# Altium footprint library LPON_OTHER.PcbLib: 107 footprints (part 2 of 7)
Each footprint in its own frame and in the unit in brackets; x right, y up, seen from the top. Pads: shape width x height; smd on the part's side, far side on the other; paste and mask are expansions set on the pad; w line width, h text height; cw(c..) or ccw(c..) is an arc to the next point about the centre after c.
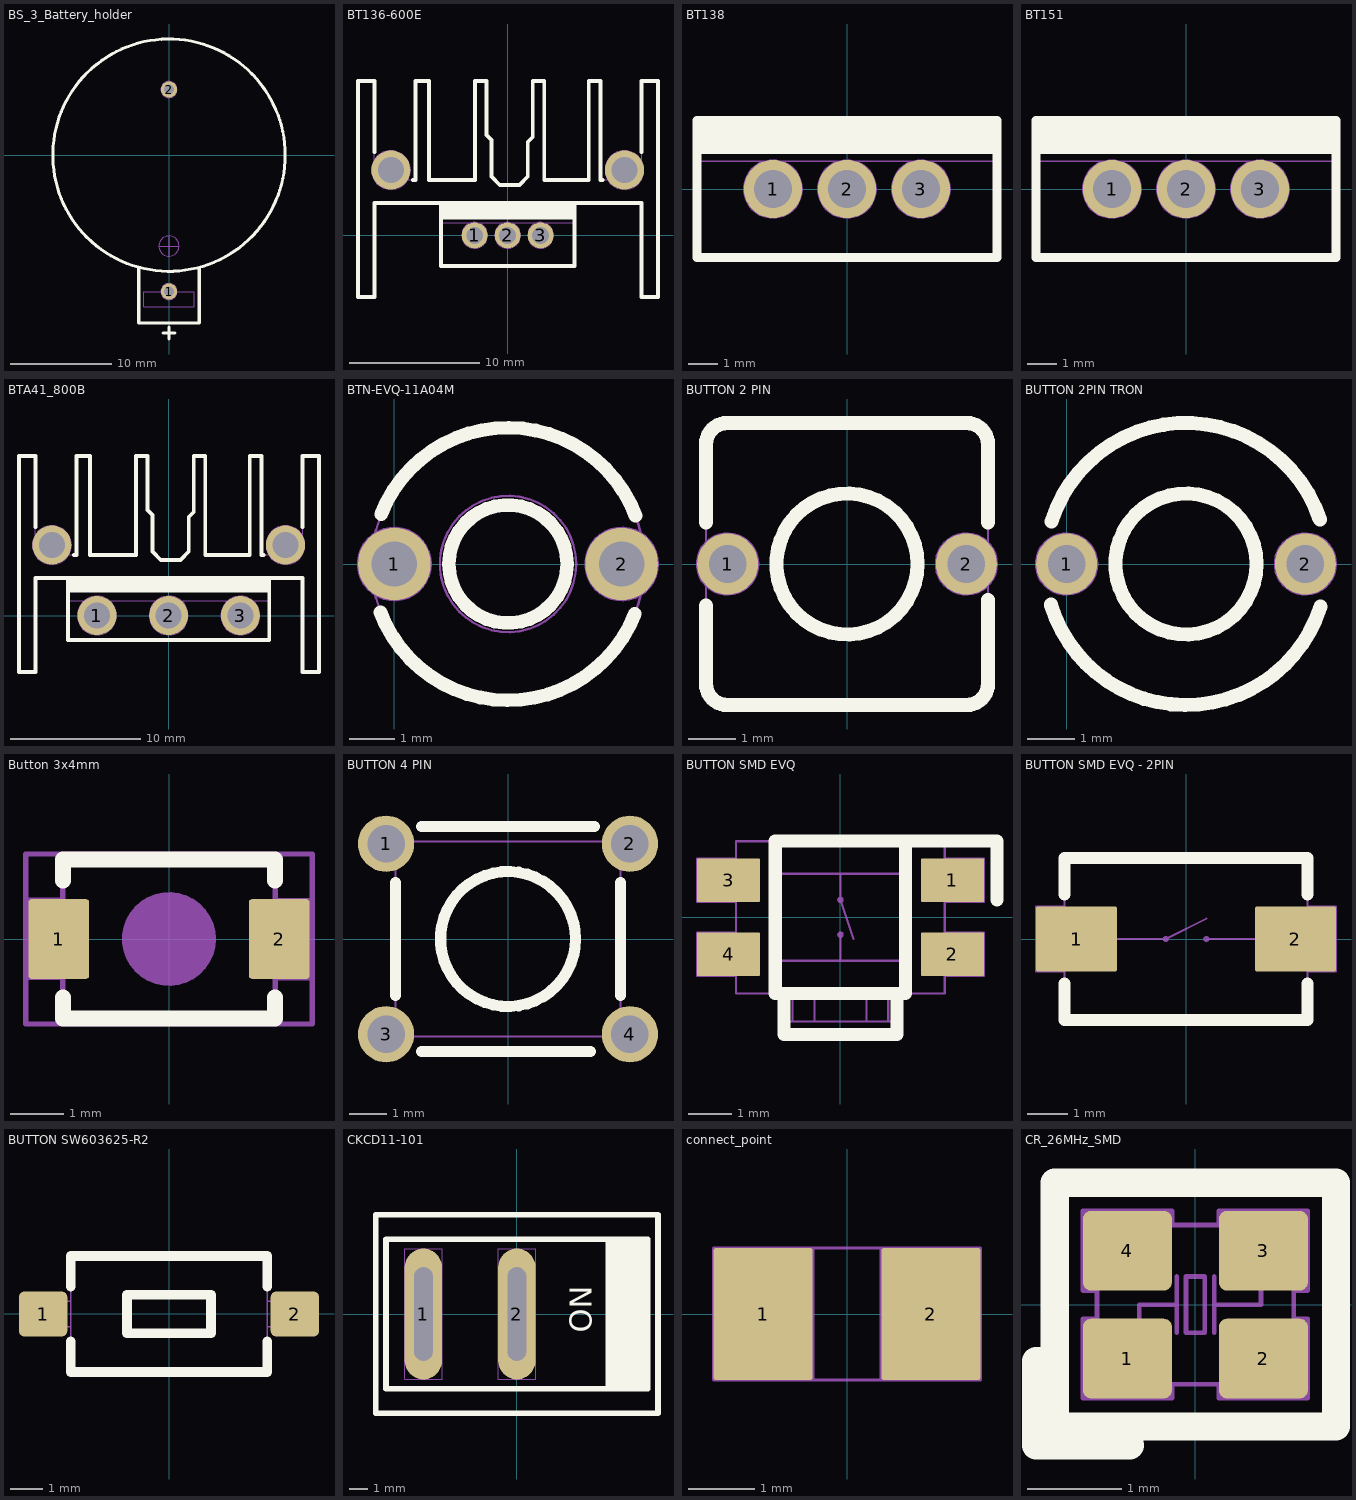
[diagram p1: the footprints below, top view; thin cyan lines are the x and y axes]

## BS_3_Battery_holder [mm]
height 6.75
pads (2):
  round 1.6 hole 1 mask+0.1: 1(0,-13.5) 2(0,6.5)
Top Overlay:
  circle w0.3: c0,0 r11.5
  lines w0.3: -2.995,-11.1 -2.995,-16.6 2.995,-16.6 2.995,-11.1 ; -0.6,-17.6 0.6,-17.6 ; 0,-18.2 0,-17
Mechanical 1:
  circle w0.05: c0,-9 r1
  circle w0.05: c0,0 r11.5
  circle w0.05: c0,-13.5 r0.8
  circle w0.05: c0,6.5 r0.8
  lines w0.05: -2.995,-11.1 -2.995,-16.6 2.995,-16.6 2.995,-11.1 ; -1,-9 1,-9 ; -0.8,-13.5 -2.5,-13.5 -2.5,-15 2.5,-15 2.5,-13.5 0.8,-13.5 ; 0,-10 0,-8
3D body "batter2.STEP": height 7.07, standoff -3.48, extent -11.4,-17.253 11.35,11.447

## BT136-600E [mm] "Triac"
pads (5):
  round 2 hole 1.3 mask+0.1: 1(-2.54,0) 2(0,0) 3(2.54,0)
  round 3 hole 2 mask+0.1: ""(-9,5.029)
  round 3 hole 2: ""(9,5.029)
Top Overlay:
  lines w0.3: -10.262,6.4 -10.262,11.887 -11.532,11.887 -11.532,-4.75 -10.262,-4.75 -10.262,2.489 10.312,2.489 10.312,-4.75 11.582,-4.75 11.582,11.887 10.312,11.887 10.312,6.4 ; -7.3,4.267 -7.087,4.267 -7.087,11.887 -6.071,11.887 -6.071,4.267 -2.515,4.267 -2.515,11.887 -1.626,11.887 -1.626,7.722 -1.245,7.341 -1.245,4.521 -0.61,3.886 0.914,3.886 1.549,4.521 1.549,7.188 1.93,7.569 1.93,11.887 2.819,11.887 2.819,4.267 6.248,4.267 6.248,11.887 7.137,11.887 7.137,4.267 7.3,4.267 ; -5.15,1.65 5.15,1.65 ; -5.15,1.95 5.15,1.95 ; -5.15,2.25 5.15,2.25 ; -5.15,-2.35 5.15,-2.35 5.15,2.35 -5.15,2.35 -5.15,-2.35 ; -5.15,1.35 5.15,1.35 -5.15,1.35
Mechanical 1:
  circle w0.05: c-2.54,0 r1
  circle w0.05: c0,0 r1
  circle w0.05: c2.54,0 r1
  circle w0.05: c-9,5.029 r1.5
  circle w0.05: c9,5.029 r1.5
  lines w0.05: -5.15,0.95 5.15,0.95 ; -5.15,2.35 5.15,2.35 ; -5.15,2.35 -5.15,-2.35 5.15,-2.35 5.15,2.35 ; -5.15,2.35 5.15,2.35 ; -11.532,-4.75 -10.262,-4.75 -10.262,2.489 -7.404,2.489 -6.604,2.489 5.588,2.489 7.772,2.489 10.312,2.489 10.312,-4.75 11.582,-4.75 11.582,11.887 10.312,11.887 10.312,4.267 7.137,4.267 7.137,11.887 6.248,11.887 6.248,4.267 2.819,4.267 2.819,11.887 1.93,11.887 1.93,7.569 1.549,7.188 1.549,4.521 0.914,3.886 -0.61,3.886 -1.245,4.521 -1.245,7.341 -1.626,7.722 -1.626,11.887 -2.515,11.887 -2.515,4.267 -6.071,4.267 -6.071,11.887 -7.087,11.887 -7.087,4.267 -10.262,4.267 -10.262,11.887 -11.532,11.887 -11.532,-4.75
  text "T1" at -3.26,-0.51 h1
  text "T2" at -0.84,-0.52 h1
  text "G" at 2.2,-0.52 h1
3D body "User Library-heat sink-1.STEP": height 30.62, standoff 0, extent -11.445,-4.695 11.455,11.705
3D body "User Library-TO-220-1.STEP": height 20.58, standoff -8.2, extent -4.947,-2.087 4.953,2.413

## BT138 [mm] "Triac TO220AB"
height 15.8
pads (3):
  round 2 hole 1.3 mask+0.1: 1(-2.54,0) 2(0,0) 3(2.54,0)
Top Overlay:
  lines w0.3: -5.15,1.65 5.15,1.65 ; -5.15,1.95 5.15,1.95 ; -5.15,2.25 5.15,2.25 ; -5.15,-2.35 5.15,-2.35 5.15,2.35 -5.15,2.35 -5.15,-2.35 ; -5.15,1.35 5.15,1.35 -5.15,1.35
Mechanical 1:
  circle w0.05: c-2.54,0 r1
  circle w0.05: c0,0 r1
  circle w0.05: c2.54,0 r1
  lines w0.05: -5.15,0.95 5.15,0.95 ; -5.15,2.35 5.15,2.35 ; -5.15,2.35 -5.15,-2.35 5.15,-2.35 5.15,2.35 ; -5.15,2.35 5.15,2.35
  text "T1" at -3.26,-0.51 h1
  text "T2" at -0.84,-0.52 h1
  text "G" at 2.2,-0.52 h1
3D body "User Library-TO-220-1.STEP": height 18.8, standoff -9.98, extent -4.947,-2.087 4.953,2.413

## BT151 [mm] "SCR TO220AB"
height 15.8
pads (3):
  round 2 hole 1.3 mask+0.1: 1(-2.54,0) 2(0,0) 3(2.54,0)
Top Overlay:
  lines w0.3: -5.15,1.65 5.15,1.65 ; -5.15,1.95 5.15,1.95 ; -5.15,2.25 5.15,2.25 ; -5.15,-2.35 -5.15,2.35 5.15,2.35 5.15,-2.35 -5.15,-2.35 ; -5.15,1.35 5.15,1.35 -5.15,1.35
Mechanical 1:
  circle w0.05: c2.54,0 r1
  circle w0.05: c0,0 r1
  circle w0.05: c-2.54,0 r1
  lines w0.05: -5.15,0.95 5.15,0.95 ; -5.15,2.35 5.15,2.35 ; -5.15,2.35 -5.15,-2.35 5.15,-2.35 5.15,2.35 ; -5.15,2.35 5.15,2.35
  text "G" at 2.2,-0.52 h1
  text "A" at -0.4,-0.4 h1
  text "K" at -2.9,-0.52 h1
3D body "User Library-TO-220-1.STEP": height 18.8, standoff -9.98, extent -4.947,-2.087 4.953,2.413

## BTA41_800B [mm] "Triac 41A"
height 21.1
pads (5):
  round 3 hole 2: 1(-5.525,0) 2(0,0) 3(5.525,0) ""(9,5.429)
  round 3 hole 2 mask+0.1: ""(-9,5.429)
Top Overlay:
  lines w0.3: -10.262,6.8 -10.262,12.287 -11.532,12.287 -11.532,-4.35 -10.262,-4.35 -10.262,2.889 10.312,2.889 10.312,-4.35 11.582,-4.35 11.582,12.287 10.312,12.287 10.312,6.8 ; -7.75,2.21 7.75,2.21 ; -7.75,2.51 7.75,2.51 ; -7.75,2.81 7.75,2.81 ; -7.3,4.667 -7.087,4.667 -7.087,12.287 -6.071,12.287 -6.071,4.667 -2.515,4.667 -2.515,12.287 -1.626,12.287 -1.626,8.122 -1.245,7.741 -1.245,4.921 -0.61,4.286 0.914,4.286 1.549,4.921 1.549,7.588 1.93,7.969 1.93,12.287 2.819,12.287 2.819,4.667 6.248,4.667 6.248,12.287 7.137,12.287 7.137,4.667 7.3,4.667 ; -7.75,2.7 7.75,2.7 ; -7.75,2.7 -7.75,-1.9 7.75,-1.9 7.75,2.7 ; -7.75,2.7 7.75,2.7 ; -7.75,1.91 7.75,1.91 -7.75,1.91
Mechanical 1:
  circle w0.05: c-5.525,0 r1.5
  circle w0.05: c0,0 r1.5
  circle w0.05: c5.525,0 r1.5
  circle w0.05: c-9,5.429 r1.5
  circle w0.05: c9,5.429 r1.5
  lines w0.05: -10.262,6.24 -10.262,12.287 -11.532,12.287 -11.532,-4.35 -10.262,-4.35 -10.262,2.889 10.312,2.889 10.312,-4.35 11.582,-4.35 11.582,12.287 10.312,12.287 10.312,6.17 ; -7.75,1.15 7.75,1.15 ; -7.7,4.667 -7.087,4.667 -7.087,12.287 -6.071,12.287 -6.071,4.667 -2.515,4.667 -2.515,12.287 -1.626,12.287 -1.626,8.122 -1.245,7.741 -1.245,4.921 -0.61,4.286 0.914,4.286 1.549,4.921 1.549,7.588 1.93,7.969 1.93,12.287 2.819,12.287 2.819,4.667 6.248,4.667 6.248,12.287 7.137,12.287 7.137,4.667 7.7,4.667 ; -7.75,2.7 7.75,2.7 ; -7.75,2.7 -7.75,-1.9 7.75,-1.9 7.75,2.7 ; -7.75,2.7 7.75,2.7
  text "A1" at -6.02,-0.49 h1
  text "A2" at -0.79,-0.54 h1
  text "G" at 5.24,-0.58 h1
3D body "User Library-heat sink-1.STEP": height 30.62, standoff 0, extent -11.445,-4.295 11.455,12.105
3D body "User Library-TOP3.step": height 22.9, standoff -13, extent -7.739,-2.068 7.761,2.432

## BTN-EVQ-11A04M [mm] "PIN TO PIN 5, W=6MM"
height 4.3
pads (2):
  round 1.6 hole 1: 1(0,0) 2(5,0)
Top Overlay:
  circle w0.3: c2.5,0 r1.3
  lines w0.3: -0.305,-1.064 ccw(c2.5,0) 5.292,-1.097 ; -0.292,1.097 cw(c2.5,0) 5.305,1.064
Mechanical 1:
  circle w0.05: c2.5,0 r3
  circle w0.05: c2.5,0 r1.5
  circle w0.05: c5,0 r0.8
  circle w0.05: c0,0 r0.8
  circle w0.05: c2.5,0 r1.5

## BUTTON 2 PIN [mm]
height 4
pads (2):
  round 1.3 hole 0.8: 1(-2.54,0) 2(2.54,0)
Top Overlay:
  circle w0.3: c0,0 r1.5
  lines w0.3: -3,-0.889 -3,-2.54 ccw(c-2.54,-2.54) -2.54,-3 2.54,-3 ccw(c2.54,-2.54) 3,-2.54 3,-0.762 ; -3,0.889 -3,2.54 cw(c-2.54,2.54) -2.54,3 2.54,3 cw(c2.54,2.54) 3,2.54 3,0.889
Mechanical 1:
  circle w0.05: c0,0 r1.5
  circle w0.05: c-2.54,0 r0.65
  circle w0.05: c2.54,0 r0.65
  lines w0.05: -3,-2.54 ccw(c-2.54,-2.54) -2.54,-3 2.54,-3 ccw(c2.54,-2.54) 3,-2.54 3,2.54 ccw(c2.54,2.54) 2.54,3 -2.54,3 ccw(c-2.54,2.54) -3,2.54 -3,-2.54
3D body "User Library-TPxxxx (Switch).step": height 4.9, standoff -3.59, extent -4,-3 3.975,3

## BUTTON 2PIN TRON [mm] "PIN TO PIN 5.08, W=6MM"
height 5
pads (2):
  round 1.3 hole 0.8: 1(0,0) 2(5.08,0)
Top Overlay:
  circle w0.3: c2.54,0 r1.5
  lines w0.3: -0.333,-0.862 ccw(c2.54,0) 5.399,-0.91 ; -0.321,0.903 cw(c2.54,0) 5.386,0.949
Mechanical 1:
  circle w0.05: c2.54,0 r1.5
  circle w0.05: c0,0 r0.65
  circle w0.05: c5.08,0 r0.65
  circle w0.05: c2.54,0 r1.5
  lines w0.05: -0.333,-0.862 ccw(c2.54,0) 5.399,-0.91 ; -0.321,0.903 cw(c2.54,0) 5.386,0.949
3D body "43461.stp": height 4.4, standoff -8.9, extent -0.735,-3.025 5.715,3.175

## Button 3x4mm [mm] "SMD 3x4mm"
pads (2):
  rrect10% 1.143x1.5 smd: 1(-2.075,0) 2(2.075,0)
Top Overlay:
  lines w0.3: -2,-1.1 -2,-1.5 2,-1.5 2,-1.1 ; -2,1.1 -2,1.5 2,1.5 2,1.1
Mechanical 2:
  circle w0.05: c0,0 r0.861
  region: -0.085,-0.861 -0.251,-0.828 -0.408,-0.763 -0.549,-0.669 -0.669,-0.549 -0.763,-0.408 -0.828,-0.251 -0.861,-0.085 -0.861,0 -0.861,0.085 -0.828,0.251 -0.763,0.408 -0.669,0.549 -0.549,0.669 -0.408,0.763 -0.251,0.828 -0.085,0.861 0,0.861 0.085,0.861 0.251,0.828 0.408,0.763 0.549,0.669 0.669,0.549 0.763,0.408 0.828,0.251 0.861,0.085 0.861,-0.085 0.828,-0.251 0.763,-0.408 0.669,-0.549 0.549,-0.669 0.408,-0.763 0.251,-0.828 0.085,-0.861
  lines w0.05: -2.007,0.752 -2.64,0.752 -2.64,-0.744 -2,-0.744 ; 2,0.744 2.64,0.744 2.64,-0.752 2.007,-0.752 ; -2,-1.5 -2,1.5 2,1.5 2,-1.5 -2,-1.5
Mechanical 13:
  lines w0.1: -2,-1.5 2,-1.5 2,1.5 -2,1.5 -2,-1.5
Mechanical 15:
  lines w0.1: -0.5,0 0.5,0 ; 0,-0.5 0,0.5 ; -2.7,-1.6 2.7,-1.6 2.7,1.6 -2.7,1.6 -2.7,-1.6
3D body "SMT Tactile Switch PTS-820.STEP": height 2.05, standoff -0.5, extent -2.25,-1.55 2.25,1.55

## BUTTON 4 PIN [mm] "4PIN 6X6MM"
height 5
pads (4):
  round 1.5 hole 1: 1(-3.25,2.54) 2(3.25,2.54) 3(-3.25,-2.54) 4(3.25,-2.54)
Top Overlay:
  circle w0.3: c0,0 r1.8
  lines w0.3: -3,-1.5 -3,1.5 ; -2.3,-3 2.2,-3 ; -2.3,3 2.3,3 ; 3,-1.5 3,1.5
Mechanical 2:
  circle w0.05: c-3.25,-2.54 r0.65
  circle w0.05: c-3.25,2.54 r0.65
  circle w0.05: c3.25,-2.54 r0.65
  circle w0.05: c3.25,2.54 r0.65
  circle w0.05: c0,0 r1.8
  lines w0.05: -3,-2.6 -3,2.6 3,2.6 3,-2.6 -3,-2.6
3D body "User Library-TPxxxx (Switch).step": height 4.9, standoff -3.59, extent -4,-3 3.975,3

## BUTTON SMD EVQ [mm] "EVQ-PUB02K"
height 1.68
pads (4):
  rrect5% 1.45x1 smd mask+0.1: 1(2.575,0.85) 2(2.575,-0.85) 3(-2.575,0.85) 4(-2.575,-0.85)
Top Overlay:
  lines w0.3: -1.3,-1.75 -1.3,-2.7 1.3,-2.7 1.3,-1.8 ; 3.6,0.4 3.6,1.75 1.5,1.75 ; 1.5,1.75 -1.5,1.75 -1.5,-1.75 1.5,-1.75 1.5,1.75
Mechanical 1:
  circle w0.05: c0,0.4 r0.05
  circle w0.05: c0,-0.4 r0.05
  circle w0.05: c-1.5,1 r0.05
  circle w0.05: c-1.5,-1 r0.05
  circle w0.05: c1.5,-1 r0.05
  circle w0.05: c1.5,1 r0.05
  lines w0.05: -1.5,-1 1.5,-1 ; -1.5,1 1.5,1 ; -1.1,-2.4 -1.1,-1.75 ; -0.6,-2.4 -0.6,-1.75 ; 0,-1 0,-0.4 ; 0,1 0,0.4 0.3,-0.5 ; 0.6,-2.4 0.6,-1.75 ; 1.1,-2.4 1.1,-1.75 ; -3.3,-1.35 -3.3,-0.35 -2.4,-0.35 -2.4,-1.35 -3.3,-1.35 ; -3.3,0.35 -3.3,1.35 -2.4,1.35 -2.4,0.35 -3.3,0.35 ; -2.4,-1.75 -2.4,1.75 2.4,1.75 2.4,-1.75 -2.4,-1.75 ; -1.3,-2.75 1.3,-2.75 1.3,-2.4 -1.3,-2.4 -1.3,-2.75 ; 2.4,-1.35 2.4,-0.35 3.3,-0.35 3.3,-1.35 2.4,-1.35 ; 2.4,0.35 3.3,0.35 3.3,1.35 2.4,1.35 2.4,0.35
  text "1" at 2.8,0.4 h0.8
  text "2" at 2.6,-1.3 h0.8
  text "3" at -3.1,0.4 h0.8
  text "4" at -3.1,-1.3 h0.8
  text "SW?" at 0,0 h0.8
3D body "User Library-EVQP7-JA-01P.step": height 1.4, standoff 0.05, extent -2.35,-2.1 2.35,1.45

## BUTTON SMD EVQ - 2PIN [mm] "EVQ-PNF04M"
height 4.3
pads (2):
  rrect5% 2x1.6 smd mask+0.1: 1(-2.7,0) 2(2.7,0)
Top Overlay:
  lines w0.3: -3,-1.1 -3,-2 3,-2 3,-1.1 ; -3,1.1 -3,2 3,2 3,1.1
Mechanical 1:
  circle w0.05: c-2,0 r0.05
  circle w0.05: c-0.5,0 r0.05
  circle w0.05: c0.5,0 r0.05
  circle w0.05: c2,0 r0.05
  lines w0.05: -2,0 -0.5,0 0.5,0.5 ; 0.5,0 2,0 ; -3.7,-0.8 -3,-0.8 -3,0.8 -3.7,0.8 -3.7,-0.8 ; -3,-2 3,-2 3,2 -3,2 -3,-2 ; 3,-0.8 3.7,-0.8 3.7,0.8 3,0.8 3,-0.8
  text "SW?" at 0,0 h0.8
3D body "User Library-EVQ-PE105K.step": height 5, standoff 0, extent -3.6,-1.75 3.6,1.75

## BUTTON SW603625-R2 [mm] "SMD Tact Switch 6x3.6x2.5"
height 2.5
pads (2):
  rrect25% 1.5x1.4 smd: 1(-3.9,0) 2(3.9,0)
Top Overlay:
  lines w0.3: -3.05,-0.85 -3.05,-1.8 3.05,-1.8 3.05,-0.85 ; -3.05,0.85 -3.05,1.8 3.05,1.8 3.05,0.85 ; -1.3,-0.6 1.3,-0.6 1.3,0.6 -1.3,0.6 -1.3,-0.6
Mechanical 2:
  lines w0.05: -3.05,-0.4 -4,-0.4 -4,0.4 -3.05,0.4 ; 3.05,-0.4 4,-0.4 4,0.4 3.05,0.4 ; -3.05,-1.8 -3.05,1.8 3.05,1.8 3.05,-1.8 -3.05,-1.8 ; -1.3,-0.6 -1.3,0.6 1.3,0.6 1.3,-0.6 -1.3,-0.6
  text "1" at -2.9,-0.4 h0.8
  text "2" at 2.4,-0.4 h0.8
3D body "User Library-Tact switch 1181_2.STEP": height 2.5, standoff -0.1, extent -4,-1.8 4,1.8

## CKCD11-101 [mm] "Cong tac on off 15.1x10.6mm"
height 12.7
pads (2):
  oval 2x7 hole 1 slot 5 at 90 deg mask+0.1: 1(-5,0) 2(0,0)
Top Overlay:
  lines w0.3: 4.9,-4 4.9,4 ; 5,-4 5,4 ; 5.2,-4 5.2,4 ; 5.5,-4 5.5,4 ; 5.8,-4 5.8,4 ; 6.1,-4 6.1,4 ; 6.4,-4 6.4,4 ; 6.7,-4 6.7,4 ; 7,-4 7,4 ; 7,-4 -7,-4 -7,4 7,4 ; 7,-4 7,4 ; -7.55,-5.3 -7.55,5.3 7.55,5.3 7.55,-5.3 -7.55,-5.3
  text "ON" at 4,-1 h1.2
Mechanical 1:
  lines w0.05: 4.9,-4 4.9,4 ; 5.2,-4 5.2,4 ; 5.5,-4 5.5,4 ; 5.8,-4 5.8,4 ; 6.1,-4 6.1,4 ; 6.4,-4 6.4,4 ; 6.7,-4 6.7,4 ; 7,-4 7,4 ; 7,-4 -7,-4 -7,4 7,4 ; 7,-4 7,4 ; 7,-4 7,4 ; -7.55,-5.3 -7.55,5.3 7.55,5.3 7.55,-5.3 -7.55,-5.3 ; -6,-3.5 -6,3.5 -4,3.5 -4,-3.5 -6,-3.5 ; -1,-3.5 1,-3.5 1,3.5 -1,3.5 -1,-3.5
  text "ON" at 4,-1 h1.2

## connect_point [mm] "for multy GNDs or POWERs"
pads (2):
  rrect5% 1.5x2 smd mask+0.1: 1(-1.27,0) 2(1.27,0)
Mechanical 1:
  lines w0.05: -2.02,1 -0.52,1 ; -2.02,1 -0.52,1 ; -2.02,1 -2.02,-1 -0.52,-1 ; -0.52,-1 -0.52,1 ; -0.52,-1 -0.52,1 ; -0.52,-1 0.52,-1 ; -0.52,1 0.52,1 ; 0.52,-1 2.02,-1 ; 0.52,-1 0.52,1 ; 0.52,1 2.02,1 ; 0.52,1 2.02,1 ; 2.02,-1 2.02,1 ; 2.02,-1 2.02,1
  text "2" at 1,-0.4 h1
  text "1" at -1.3,-0.5 h1
  text "J?" at 0,0 h0.8

## CR_26MHz_SMD [mm] "FA-128 16MHz-54MHz"
height 0.5
pads (4):
  rrect20% 0.95x0.85 smd mask+0.1: 1(-0.725,-0.575) 2(0.725,-0.575) 3(0.725,0.575) 4(-0.725,0.575)
Top Overlay:
  lines w0.3: -1.5,-0.6 -1.7,-0.6 -1.7,-1.5 -0.7,-1.5 ; -1.5,-1.3 -1.5,1.3 1.5,1.3 1.5,-1.3 -1.5,-1.3
Mechanical 1:
  lines w0.05: -1.05,-0.15 -1.2,-0.15 -1.2,-1 -0.25,-1 -0.25,-0.85 ; -1.05,0.15 -1.2,0.15 -1.2,1 -0.25,1 -0.25,0.85 ; -0.6,-0.15 -0.6,0 -0.35,0 -0.2,0 ; -0.2,-0.3 -0.2,0.3 ; 0.2,-0.3 0.2,0.3 ; 0.2,0 0.35,0 0.7,0 0.7,0.2 ; 0.25,-0.85 0.25,-1 1.2,-1 1.2,-0.15 1.05,-0.15 ; 0.25,0.85 0.25,1 1.2,1 1.2,0.15 1.05,0.15 ; -1.05,-0.85 -1.05,0.85 1.05,0.85 1.05,-0.85 -1.05,-0.85 ; -0.1,-0.3 0.1,-0.3 0.1,0.3 -0.1,0.3 -0.1,-0.3
  text "1" at -0.8,-0.7 h0.5
  text "2" at 0.5,-0.7 h0.5
  text "3" at 0.5,0.2 h0.5
  text "4" at -0.8,0.2 h0.5